# Altium schematic symbol library Kntakt_pl.SchLib: 2 symbols
Pins are listed as number, name and electrical type; pins without a type are passive.

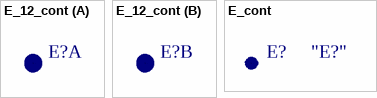
[diagram p0: symbols E_12_cont to E_cont]

## E_12_cont
designator E?  (no BOM)
Контактная площадка; CurrentMax: *
part A pins: 1
part B pins: 1

## E_cont
designator E?  Marking: "E?"  (no BOM)
Контактная площадка; DiametrWire: *; CurrentMax: *
pins: 1